# Altium schematic symbol library Schlib1.SchLib: 6 symbols
Pins are listed as number, name and electrical type; pins without a type are passive.

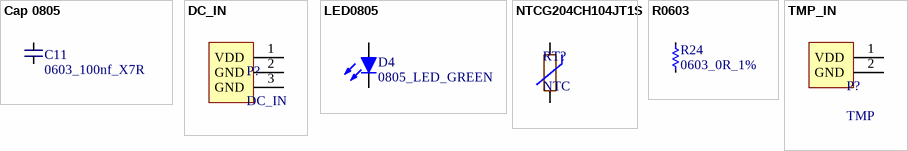
[diagram p0: symbols Cap 0805 to TMP_IN]

## Cap 0805
designator C11, comment 0603_100nf_X7R
footprint C0603
footprint C0402
footprint C0805
footprint C1206
pins: 1, 2

## DC_IN
designator P?
footprint DC_IN
pins: 1 VDD, 2 GND, 3 GND

## LED0805
designator D4, comment 0805_LED_GREEN
footprint LED0805G
pins: 1 A, 2 K

## NTCG204CH104JT1S
designator RT?, comment NTC
footprint NTC0805 (NTCG204CH104JT1S)
pins: 1, 2

## R0603
designator R24, comment 0603_0R_1%
Resistor; Published: 8-Jun-2000; LatestRevisionDate: 17-Jul-2002; LatestRevisionNote: Re-released for DXP Platform.; PackageReference: AXIAL-0.3; Publisher: Altium Limited
simulation model RESISTOR (Resistor)
signal-integrity model Res
footprint R0603 (1/10W)
pins: 1, 2

## TMP_IN
designator P?, comment TMP
footprint TMP_IN
pins: 1 VDD, 2 GND